# EAGLE library part DIP-BLACK-MALE-HEADER-VERT(16P-2.54) (library Seeed-Connector -2016)
320020034
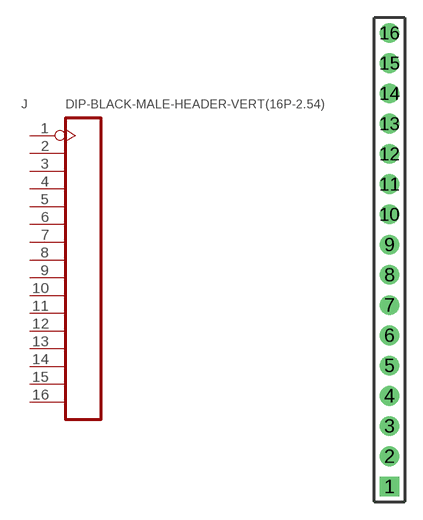
[diagram p17: symbol with the pads of H16-2.54; footprint H16-2.54]

Designator prefix J

## DIP-BLACK-MALE-HEADER-VERT(16P-2.54) (MPN: P125-1116A0BS116AX; VALUE: 16p-2.54)  [H16-2.54]
1  1  pas
2  2  pas
3  3  pas
4  4  pas
5  5  pas
6  6  pas
7  7  pas
8  8  pas
9  9  pas
10  10  pas
11  11  pas
12  12  pas
13  13  pas
14  14  pas
15  15  pas
16  16  pas

## Footprint H16-2.54 (pad centres in mm)
drill 0.889 pad 1.651 square: 1 0,-19.05
drill 0.889 pad 1.651: 2 0,-16.51; 3 0,-13.97; 4 0,-11.43; 5 0,-8.89; 6 0,-6.35; 7 0,-3.81; 8 0,-1.27; 9 0,1.27; 10 0,3.81; 11 0,6.35; 12 0,8.89; 13 0,11.43; 14 0,13.97; 15 0,16.51; 16 0,19.05